# Altium footprint library PcbLib1.PcbLib: 10 footprints
Each footprint in its own frame and in the unit in brackets; x right, y up, seen from the top. Pads: shape width x height; smd on the part's side, far side on the other; paste and mask are expansions set on the pad; w line width, h text height; cw(c..) or ccw(c..) is an arc to the next point about the centre after c.
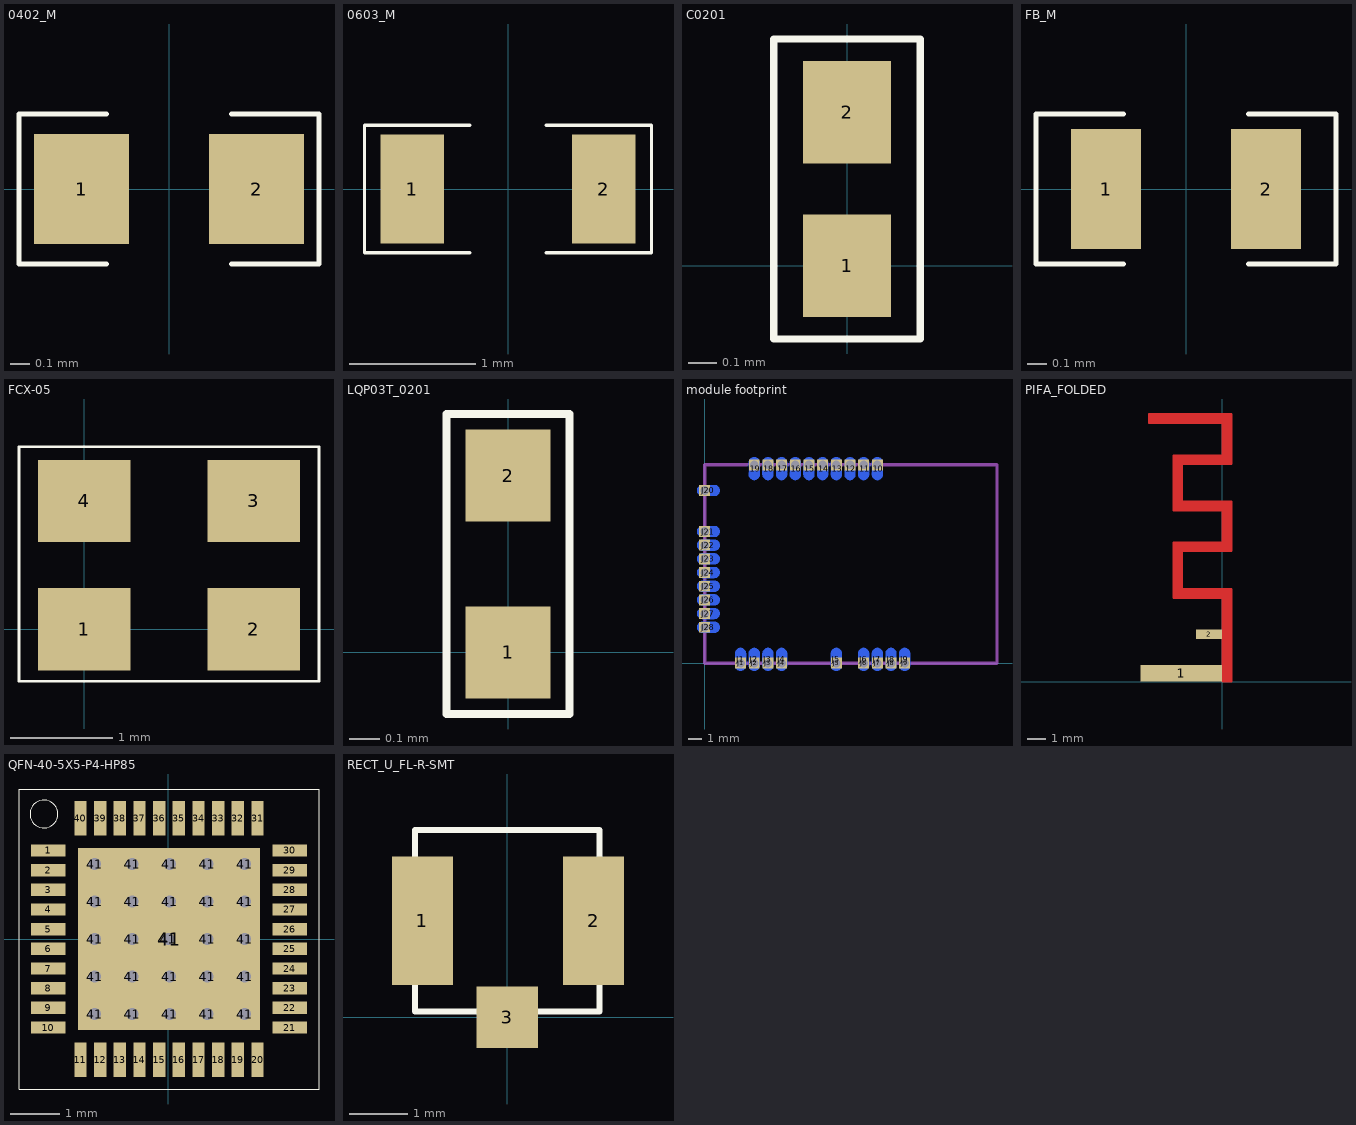
[diagram p0: the footprints below, top view; thin cyan lines are the x and y axes]

## 0402_M [mil]
pads (2):
  rect 19x22 smd: 1(-17.5,0) 2(17.5,0)
Top Overlay:
  lines w1: -12.5,-15 -30,-15 -30,15 -12.5,15 ; 12.5,-15 30,-15 30,15 12.5,15

## 0603_M [mil]
pads (2):
  rect 20x34 smd: 1(-30,0) 2(30,0)
Top Overlay:
  lines w1: -12,-20 -45,-20 -45,20 -12,20 ; 12,-20 45,-20 45,20 12,20

## C0201 [mil]
pads (2):
  rect 12x14 smd: 1(0,0) 2(0,21)
Top Overlay:
  lines w1: -10,-10 10,-10 10,31 -10,31 -10,-10

## FB_M [mil]
pads (2):
  rect 14x24 smd: 1(-16,0) 2(16,0)
Top Overlay:
  lines w1: -12.5,-15 -30,-15 -30,15 -12.5,15 ; 12.5,-15 30,-15 30,15 12.5,15

## FCX-05 [mil]
pads (4):
  rect 35.4x31.5 smd: 1(0,0) 2(65,0) 3(65,49.2) 4(0,49.2)
Top Overlay:
  lines w1: -25,-20 90,-20 90,70 -25,70 -25,-20

## LQP03T_0201 [mil]
pads (2):
  rect 11x12 smd: 1(0,0) 2(0,23)
Top Overlay:
  lines w1: -8,-8 8,-8 8,31 -8,31 -8,-8

## module footprint [mil]
height 78.74
pads (56):
  rect 32x32 / inner round 32 / far side rect 32x32 hole 25: J1(105,0) J2(145,0) J3(185,0) J4(225,0) J5(385,0) J6(465,0) J7(505,0) J8(545,0) J9(585,0) J10(505,580) J11(465,580) J12(425,580) J13(385,580) J14(345,580) J15(305,580) J16(265,580) J17(225,580) J18(185,580) J19(145,580) J20(0,505) J21(0,385) J22(0,345) J23(0,305) J24(0,265) J25(0,225) J26(0,185) J27(0,145) J28(0,105)
  oval 32x66.93 smd far side paste-33.46 mask+2: J1(105,11.02) J2(145,11.02) J3(185,11.02) J4(225,11.02) J5(385,11.02) J6(465,11.02) J7(505,11.02) J8(545,11.02) J9(585,11.02) J10(505,568.98) J11(465,568.98) J12(425,568.98) J13(385,568.98) J14(345,568.98) J15(305,568.98) J16(265,568.98) J17(225,568.98) J18(185,568.98) J19(145,568.98)
  oval 66.93x32 smd far side paste-33.46 mask+2: J20(11.02,505) J21(11.02,385) J22(11.02,345) J23(11.02,305) J24(11.02,265) J25(11.02,225) J26(11.02,185) J27(11.02,145) J28(11.02,105)
Mechanical 1:
  lines w10: 0,0 0,580 855,580 855,0 0,0

## PIFA_FOLDED [mil]
pads (2):
  rect 173x35.4 smd: 1(-86.5,17.7)
  rect 55x19.68 smd: 2(-27.5,100.24)
Top Layer:
  region: 0,0 0,177 -104,177 -104,295 0,295 0,362 -104,362 -104,480 0,480 0,547 -155,547 -155,567 20,567 20,461 -84,461 -84,382 20,382 20,276 -84,276 -84,197 20,197 20,0
  lines w3: -155,547 0,547 0,480 -104,480 -104,362 0,362 0,295 -104,295 -104,177 0,177 0,17.7 0,0 20,0 20,197 -84,197 -84,276 20,276 20,382 -84,382 -84,461 20,461 20,567 -155,567 -155,547

## QFN-40-5X5-P4-HP85 [mm]
pads (66):
  rect 0.7x0.25 smd: 1(-2.437,1.8) 2(-2.437,1.4) 3(-2.437,1) 4(-2.437,0.6) 5(-2.437,0.2) 6(-2.437,-0.2) 7(-2.437,-0.6) 8(-2.437,-1) 9(-2.437,-1.4) 10(-2.437,-1.8) 21(2.463,-1.8) 22(2.463,-1.4) 23(2.463,-1) 24(2.463,-0.6) 25(2.463,-0.2) 26(2.463,0.2) 27(2.463,0.6) 28(2.463,1) 29(2.463,1.4) 30(2.463,1.8)
  rect 0.25x0.7 smd: 11(-1.787,-2.45) 12(-1.387,-2.45) 13(-0.987,-2.45) 14(-0.587,-2.45) 15(-0.187,-2.45) 16(0.213,-2.45) 17(0.613,-2.45) 18(1.013,-2.45) 19(1.413,-2.45) 20(1.813,-2.45) 31(1.813,2.45) 32(1.413,2.45) 33(1.013,2.45) 34(0.613,2.45) 35(0.213,2.45) 36(-0.187,2.45) 37(-0.587,2.45) 38(-0.987,2.45) 39(-1.387,2.45) 40(-1.787,2.45)
  round 0.406 hole 0.254 mask+0: 41(-1.499,-1.524) 41(-1.499,-0.762) 41(-1.499,0) 41(-1.499,0.762) 41(-1.499,1.524) 41(-0.737,-1.524) 41(-0.737,-0.762) 41(-0.737,0) 41(-0.737,0.762) 41(-0.737,1.524) 41(0,0) 41(0.025,-1.524) 41(0.025,-0.762) 41(0.025,0.762) 41(0.025,1.524) 41(0.787,-1.524) 41(0.787,-0.762) 41(0.787,0) 41(0.787,0.762) 41(0.787,1.524) 41(1.549,-1.524) 41(1.549,-0.762) 41(1.549,0) 41(1.549,0.762) 41(1.549,1.524)
  rect 3.7x3.7 smd: 41(0.013,0)
Top Overlay:
  circle w0.025: c-2.527,2.54 r0.284
  lines w0.025: -3.035,-3.048 -3.035,3.048 3.061,3.048 3.061,-3.048 -3.035,-3.048

## RECT_U_FL-R-SMT [mil] "RECT_U_FL-R-SMT"
pads (3):
  rect 41.1x86.61 smd paste+0 mask+4: 1(-57,64.96) 2(58,64.96)
  rrect0% 41.33x41.33 smd paste+0 mask+4: 3(0,0)
Top Overlay:
  lines w3.94: -62,3.94 -62,125.98 62,125.98 62,3.94 -62,3.94